# EAGLE library part TEN32411 (library traco)
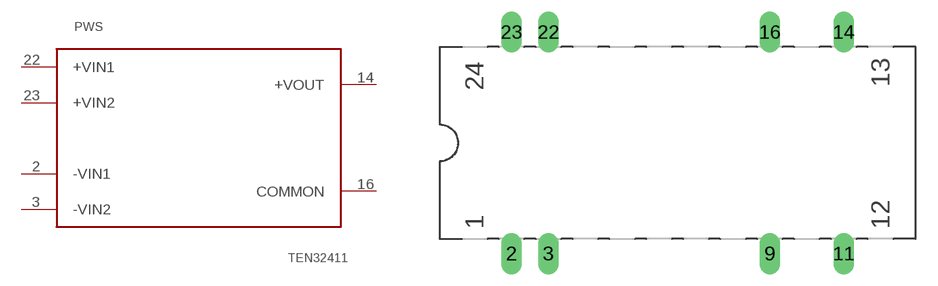
[diagram p2: symbol with the pads of TEN3XXXX; footprint TEN3XXXX]

Designator prefix PWS

## TEN32411  [TEN3XXXX]
2  -VIN1  pwr
3  -VIN2  pwr
14  +VOUT  sup
16  COMMON  sup
22  +VIN1  pwr
23  +VIN2  pwr

## Footprint TEN3XXXX (pad centres in mm)
drill 0.813 pad 1.422 long: 2 -11.43,-7.62; 3 -8.89,-7.62; 9 6.35,-7.62; 11 11.43,-7.62; 14 11.43,7.62; 16 6.35,7.62; 22 -8.89,7.62; 23 -11.43,7.62